# Altium footprint library SV.PcbLib: 2 footprints
Each footprint in its own frame and in the unit in brackets; x right, y up, seen from the top. Pads: shape width x height; smd on the part's side, far side on the other; paste and mask are expansions set on the pad; w line width, h text height; cw(c..) or ccw(c..) is an arc to the next point about the centre after c.
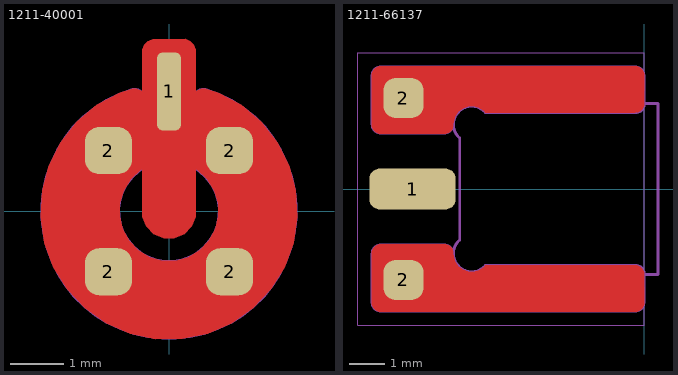
[diagram p0: the footprints below, top view; thin cyan lines are the x and y axes]

## 1211-40001 [mil]
pads (5):
  rrect50% 18x58 smd mask+1.5: 1(0,89)
  rrect60% 35x35 smd paste-100 mask+2: 2(-45,-45) 2(-45,45) 2(45,-45) 2(45,45)
Top Layer:
  region: -17,32.86 -21.21,30.31 -28.45,23.66 -33.67,15.34 -36.52,5.93 -36.79,-3.9 -34.47,-13.45 -29.71,-22.05 -22.86,-29.09 -14.4,-34.08 -4.91,-36.67 4.91,-36.67 14.4,-34.08 22.86,-29.09 29.71,-22.05 34.47,-13.45 36.79,-3.9 36.52,5.93 33.67,15.34 28.45,23.66 21.21,30.31 17,32.86 17,82.26 17,84 18.33,87.21 20.79,89.67 24,91 25.74,91 27.28,91 36.57,88.21 53.65,79 68.52,66.52 80.55,51.29 89.26,33.94 94.28,15.19 95.4,-4.18 92.59,-23.39 85.95,-41.62 75.75,-58.14 62.43,-72.26 46.53,-83.39 28.71,-91.08 9.7,-95 -9.7,-95 -28.71,-91.08 -46.53,-83.39 -62.43,-72.26 -75.75,-58.14 -85.95,-41.62 -92.59,-23.39 -95.4,-4.18 -94.28,15.19 -89.26,33.94 -80.55,51.29 -68.52,66.52 -53.65,79 -36.57,88.21 -27.28,91 -25.74,91 -24,91 -20.79,89.67 -18.33,87.21 -17,84 -17,82.26
  pour cut-out: 0,-20 -3.98,-20 -11.33,-16.96 -16.96,-11.33 -20,-3.98 -20,0 -20,118 -20,119.99 -18.48,123.66 -15.66,126.48 -11.99,128 -10,128 10,128 11.99,128 15.66,126.48 18.48,123.67 20,119.99 20,118 20,0 20,-3.98 16.96,-11.33 11.33,-16.96 3.98,-20
Top Paste:
  region: 5,-84.85 5,-39.69 8.25,-39.14 14.57,-37.25 20.49,-34.35 25.86,-30.52 30.52,-25.86 34.35,-20.49 37.25,-14.57 39.14,-8.25 39.69,-5 84.85,-5 84.4,-12.73 80.71,-27.76 74.37,-41.89 65.58,-54.63 54.63,-65.58 41.89,-74.37 27.76,-80.71 12.73,-84.4
  region: -5,-84.85 -12.73,-84.4 -27.76,-80.71 -41.89,-74.37 -54.63,-65.58 -65.58,-54.63 -74.37,-41.89 -80.71,-27.76 -84.4,-12.73 -84.85,-5 -39.69,-5 -39.14,-8.25 -37.25,-14.57 -34.35,-20.49 -30.52,-25.86 -25.86,-30.52 -20.49,-34.35 -14.57,-37.25 -8.25,-39.14 -5,-39.69
  region: -84.85,5 -39.69,5 -38.85,9.53 -35.64,18.15 -30.56,25.81 -23.85,32.11 -20,34.64 -20,82.61 -26.59,81.02 -39.11,75.77 -50.63,68.61 -60.88,59.71 -69.58,49.3 -76.52,37.63 -81.52,25.02 -84.45,11.77
  region: 84.85,5 84.45,11.77 81.52,25.02 76.52,37.63 69.58,49.3 60.88,59.71 50.63,68.61 39.11,75.77 26.59,81.02 20,82.61 20,34.64 23.85,32.11 30.56,25.81 35.64,18.15 38.85,9.53 39.69,5
Top Component Outline:
  lines w1: -27.28,91 ccw(c0,0) 27.28,91 25.74,91 ccw(c25.74,82.26) 17,82.26 17,32.86 cw(c0,0) -17,32.86 -17,82.26 ccw(c-25.74,82.26) -25.74,91 -27.28,91
3D body "1211-40001_Vertical.STEP": height 200, standoff 0, extent -82.51,-82.51 82.49,112.99

## 1211-66137 [mil]
pads (3):
  rrect50% 95x45 smd paste-1 mask+2: 1(-255,0)
  rrect60% 44x44 smd paste-100 mask+2: 2(-265,-100) 2(-265,100)
Top Layer:
  region: -290,-61 -291.99,-61 -295.66,-62.52 -298.48,-65.34 -300,-69.01 -300,-71 -300,-125 -300,-126.99 -298.48,-130.66 -295.66,-133.48 -291.99,-135 -290,-135 -10,-135 -8.01,-135 -4.34,-133.48 -1.52,-130.66 0,-126.99 0,-125 0,-94 0,-92.01 -1.52,-88.34 -4.34,-85.52 -8.01,-84 -10,-84 -174.8,-84 -176.95,-86.15 -182.09,-89.37 -187.95,-90.89 -194.01,-90.59 -199.69,-88.49 -204.49,-84.79 -207.95,-79.81 -209.77,-74.03 -210,-71 -210,-69.01 -211.52,-65.34 -214.34,-62.52 -218.01,-61 -220,-61
  region: -290,61 -291.99,61 -295.66,62.52 -298.48,65.34 -300,69.01 -300,71 -300,125 -300,126.99 -298.48,130.66 -295.66,133.48 -291.99,135 -290,135 -10,135 -8.01,135 -4.34,133.48 -1.52,130.66 0,126.99 0,125 0,94 0,92.01 -1.52,88.34 -4.34,85.52 -8.01,84 -10,84 -174.8,84 -176.95,86.15 -182.09,89.37 -187.95,90.89 -194.01,90.59 -199.69,88.49 -204.49,84.79 -207.95,79.81 -209.77,74.03 -210,71 -210,69.01 -211.52,65.34 -214.34,62.52 -218.01,61 -220,61
Bottom Layer:
  region: -235,-61 -236.99,-61 -240.66,-62.52 -243.48,-65.34 -245,-69.01 -245,-71 -245,-105 -245,-106.99 -243.48,-110.66 -240.66,-113.48 -236.99,-115 -235,-115 -10,-115 -8.01,-115 -4.34,-113.48 -1.52,-110.66 0,-106.99 0,-105 0,-94 0,-92.01 -1.52,-88.34 -4.34,-85.52 -8.01,-84 -10,-84 -174.8,-84 -176.95,-86.15 -182.09,-89.37 -187.95,-90.89 -194.01,-90.59 -199.69,-88.49 -204.49,-84.79 -207.95,-79.81 -209.77,-74.03 -210,-71 -210,-69.01 -211.52,-65.34 -214.34,-62.52 -218.01,-61 -220,-61
  region: -235,61 -236.99,61 -240.66,62.52 -243.48,65.34 -245,69.01 -245,71 -245,105 -245,106.99 -243.48,110.66 -240.66,113.48 -236.99,115 -235,115 -10,115 -8.01,115 -4.34,113.48 -1.52,110.66 0,106.99 0,105 0,94 0,92.01 -1.52,88.34 -4.34,85.52 -8.01,84 -10,84 -174.8,84 -176.95,86.15 -182.09,89.37 -187.95,90.89 -194.01,90.59 -199.69,88.49 -204.49,84.79 -207.95,79.81 -209.77,74.03 -210,71 -210,69.01 -211.52,65.34 -214.34,62.52 -218.01,61 -220,61
Top Courtyard:
  lines w1: -315,-150 -315,150 0,150 0,-150 -315,-150
  lines w2: -300,-125 ccw(c-290,-125) -290,-135 -10,-135 ccw(c-10,-125) 0,-125 0,-94 ccw(c-10,-94) -10,-84 -174.8,-84 cw(c-190,-71) -210,-71 ccw(c-220,-71) -220,-61 -290,-61 ccw(c-290,-71) -300,-71 -300,-125 ; -300,71 ccw(c-290,71) -290,61 -220,61 ccw(c-220,71) -210,71 cw(c-190,71) -174.8,84 -10,84 ccw(c-10,94) 0,94 0,125 ccw(c-10,125) -10,135 -290,135 ccw(c-290,125) -300,125 -300,71
Bottom Courtyard:
  lines w2: -245,-105 ccw(c-235,-105) -235,-115 -10,-115 ccw(c-10,-105) 0,-105 0,-94 ccw(c-10,-94) -10,-84 -174.8,-84 cw(c-190,-71) -210,-71 ccw(c-220,-71) -220,-61 -235,-61 ccw(c-235,-71) -245,-71 -245,-105 ; -245,71 ccw(c-235,71) -235,61 -220,61 ccw(c-220,71) -210,71 cw(c-190,71) -174.8,84 -10,84 ccw(c-10,94) 0,94 0,105 ccw(c-10,105) -10,115 -235,115 ccw(c-235,105) -245,105 -245,71
Top Component Outline:
  lines w3: -203,-55.8 ccw(c-190,-71) -174.8,-84 -10,-84 cw(c-10,-94) 0,-94 15,-94 15,94 0,94 cw(c-10,94) -10,84 -174.8,84 ccw(c-190,71) -203,55.8 -203,-55.8
Top Gold Plating:
  lines w3: -210,-71 ccw(c-190,-71) -174.8,-84 -10,-84 cw(c-10,-94) 0,-94 ; -210,71 cw(c-190,71) -174.8,84 -10,84 ccw(c-10,94) 0,94
3D body "1211-66137_Edge.STEP": height 96.27, standoff -74.5, extent -290,-124.99 0,124.99